# Altium schematic symbol library Transistors NPN.SchLib: 7 symbols
Pins are listed as number, name and electrical type; pins without a type are passive.

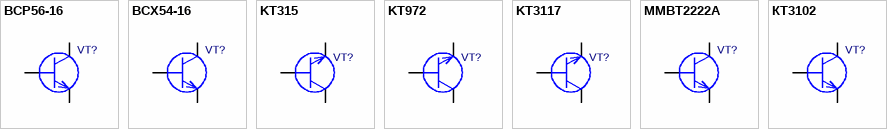
[diagram p0: symbols BCP56-16 to КТ3102]

## BCP56-16
designator VT?  (value not drawn)
80V, 1A NPN medium power transistors; Value: *
footprint SOT-223 PWR
pins: 1 B, 2 C, 3 E

## BCX54-16
designator VT?  (value not drawn)
45V, 1A NPN medium power transistor; Value: *
footprint SOT-89
pins: 1 B, 2 C, 3 E

## KT315
designator VT?  (value not drawn)
KT315; Value: {Value}
simulation model 2N4124
footprint KT13_KT13-1
footprint KT13_KT13-2
footprint KT13_KT13-3
footprint KT13_Primary
pins: 1 E, 2 B, 3 K

## KT972
designator VT?  (value not drawn)
KT972; Value: {Value}
simulation model 2N4124
footprint TO-225AA_KT27A
footprint TO-225AA_KT27R
footprint TO-225AA_KT27R1
footprint TO-225AA_Primary
pins: 1 E, 2 B, 3 K

## KT3117
designator VT?  (value not drawn)
KT3117; Value: {Value}
simulation model 2N4124
footprint KT26-1_KT26-1-1
footprint KT26-1_Primary
pins: 1 E, 2 B, 3 C

## MMBT2222A
designator VT?  (value not drawn)
MMBT2222A; Value: *
footprint SOT-23_MMBT2222A(Primary)
pins: 1 C, 2 B, 3 E

## КТ3102
designator VT?  (value not drawn)
КТ3102; Value: *
footprint ТО-18
pins: 1, 2, 3